# Altium schematic symbol library Altium_XTAL_WATCH.SchLib: 4 symbols
Pins are listed as number, name and electrical type; pins without a type are passive.

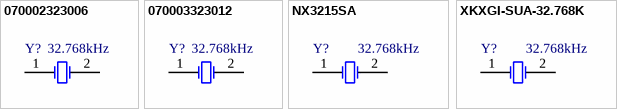
[diagram p0: symbols 070002323006 to XKXGI-SUA-32.768K]

## 070002323006
designator Y?, comment 32.768kHz
WE-XTAL Watch Crystal, THT, WATCH, 32.768kHz, +/-20ppm; Manufacturer Part Number: 830014219B; Manufacturer: Wurth Elektronik; Load Capacitance: 6pF; Frequency Stability: -; Frequency: 32.768kHz; Frequency Tolerance: +/-20ppm; Supplier 3 URL: https://www.thegioiic.com/thach-anh-32-768khz-2x6mm; ComponentLink1Description: Datasheet; ComponentLink1URL: https://katalog.we-online.com/pbs/datasheet/830014219B.pdf; Supplier 1 URL: https://www.mouser.com/ProductDetail/Wurth-Elektronik/830014219B?qs=2WXlatMagcHtIp%252BQ4AMyQg%3D%3D; Supplier 2 URL: https://www.digikey.com/en/products/detail/w%C3%BCrth-elektronik/830014219b/13900227; Value: 32.768kHz; Mount: THT; Operating Temperature Max: + 85 C; Operating Temperature Min: - 40 C; Package / Case: WATCH; Packaging: Tape and Reel; Supplier 1: Mouser; Supplier 1 Part Number: 710-830014219B; Supplier 2: Digi-Key; Supplier 2 Part Number: 1923-830014219B-ND; Supplier 3: thegioiic; Supplier 3 Part Number: N/A; LCSC Part #: N/A
footprint WE-XTAL_WATCH_830014219B (Quartz Crystal, size WATCH, body diameter 2mm)
pins: 1 OSC1, 2 OSC2

## 070003323012
designator Y?, comment 32.768kHz
WE-XTAL Watch Crystal, THT, WATCH, 32.768kHz, +/-20ppm; Manufacturer Part Number: 830002995B; Manufacturer: Wurth Elektronik; Load Capacitance: 12.5pF; Frequency Stability: -; Frequency: 32.768kHz; Frequency Tolerance: +/-20ppm; Supplier 3 URL: https://www.thegioiic.com/thach-anh-32-768khz-3x8mm; ComponentLink1Description: Datasheet; ComponentLink1URL: https://katalog.we-online.com/pbs/datasheet/830002995B.pdf; Supplier 1 URL: https://www.mouser.com/ProductDetail/Wurth-Elektronik/830002995B?qs=2WXlatMagcHCnw26vHVZcg%3D%3D; Supplier 2 URL: https://www.digikey.com/en/products/detail/w%C3%BCrth-elektronik/830002995b/13979343; Value: 32.768kHz; Mount: THT; Operating Temperature Max: + 85 C; Operating Temperature Min: - 40 C; Package / Case: WATCH; Packaging: Tape and Reel; Supplier 1: Mouser; Supplier 1 Part Number: 710-830002995B; Supplier 2: Digi-Key; Supplier 2 Part Number: 732-830002995B-ND; Supplier 3: thegioiic; Supplier 3 Part Number: N/A; LCSC Part #: N/A
footprint WE-XTAL_WATCH_830002995B
pins: 1 OSC1, 2 OSC2

## NX3215SA
designator Y?, comment 32.768kHz
Crystals CRYSTAL 32.768KHZ 6PF SMD; Manufacturer: NDK; Manufacturer Part Number: NX3215SA-32.768K-STD-MUA-14; Frequency Tolerance: +/-25ppm; ComponentLink1Description: Datasheet; ComponentLink1URL: https://www.mouser.vn/datasheet/2/905/c_NX3215SA_e-2580713.pdf; Frequency: 32.768kHz; Frequency Stability: -; LCSC Part #: C156244; Load Capacitance: 6pF; Mount: SMD/SMT; Operating Temperature Max: + 85 C; Operating Temperature Min: - 40 C; Package / Case: N/A; Packaging: Tape and Reel; Supplier 1: Mouser; Supplier 1 Part Number: 344-NX3215SA32768K14; Supplier 1 URL: https://www.mouser.vn/ProductDetail/NDK/NX3215SA-32.768K-STD-MUA-14?qs=55YtniHzbhCTyKGENMTVrQ%3D%3D; Supplier 2: Digi-Key; Supplier 2 Part Number: N/A; Supplier 2 URL: N/A; Supplier 3: thegioiic; Supplier 3 Part Number: N/A; Supplier 3 URL: N/A; Value: 32.768kHz
footprint NX3215SA
pins: 1 OSC1, 2 OSC2

## XKXGI-SUA-32.768K
designator Y?, comment 32.768kHz
32.768kHz Surface Mount Crystal 12.5pF ±20ppm ±30ppm SMD3215-2P Crystals ROHS; Manufacturer: YXC Crystal Oscillators; Manufacturer Part Number: XKXGI-SUA-32.768K; Frequency Stability: +/-30ppm; Frequency Tolerance: +/-20ppm; ComponentLink1Description: Datasheet; ComponentLink1URL: https://www.lcsc.com/datasheet/lcsc_datasheet_2210261730_YXC-Crystal-Oscillators-XKXGI-SUA-32-768K_C5213671.pdf; Frequency: 32.768kHz; LCSC Part #: C5213671; Load Capacitance: 12.5pF; Mount: SMD/SMT; Operating Temperature Max: + 85 C; Operating Temperature Min: - 40 C; Package / Case: SMD3215-2P; Packaging: Tape and Reel; Supplier 1: Mouser; Supplier 1 Part Number: N/A; Supplier 1 URL: N/A; Supplier 2: Digi-Key; Supplier 2 Part Number: N/A; Supplier 2 URL: N/A; Supplier 3: thegioiic; Supplier 3 Part Number: N/A; Supplier 3 URL: N/A; Value: 32.768kHz
footprint XKXGI-SUA-32.768K
pins: 1 OSC1, 2 OSC2